# EAGLE library part MCP355* (library Microchip)
Low-Power, Single-Channel 22-Bit Delta-Sigma ADCs Source: http://ww1.microchip.com/downloads/en/DeviceDoc/21950c.pdf
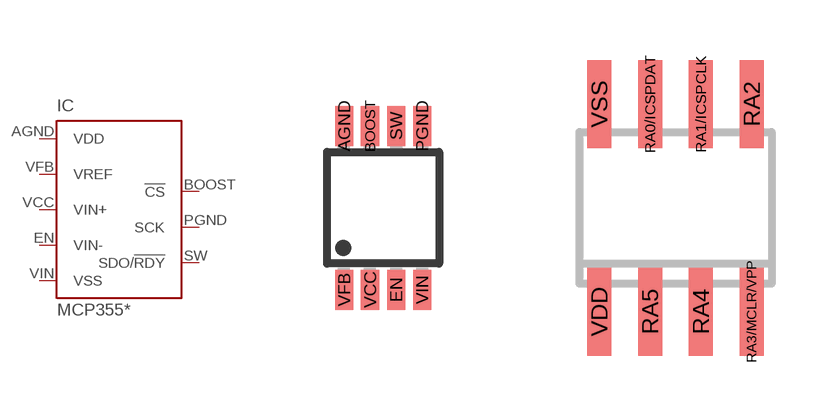
[diagram p93: symbol with the pads of MSOP8; footprints MSOP8, SO-08]

Designator prefix IC

## MCP3550-50MS (MF: MICROCHIP; MPN: MCP3550-50E/MS; OC_FARNELL: 1627198; OC_NEWARK: 69K0130), MCP3550-60MS (MF: MICROCHIP; MPN: MCP3550-60E/MS; OC_FARNELL: 1840933; OC_NEWARK: 69K0134), MCP3551MS (MF: MICROCHIP; MPN: MCP3551-E/MS; OC_FARNELL: 1084624; OC_NEWARK: 22K1368), MCP3553MS (MPN: MCP3553-E/MS; OC_FARNELL: 1439515; OC_NEWARK: 56K7003)  [MSOP8]
AGND  VDD  pwr
BOOST  !CS  in
EN  VIN-  in
PGND  SCK  in
SW  SDO/!RDY  out
VCC  VIN+  in
VFB  VREF  in
VIN  VSS  pwr

## MCP3550-50SN (MF: MICROCHIP; MPN: MCP3550-50-E/SN; OC_FARNELL: 1557411; OC_NEWARK: 69K0131), MCP3550-60SN (MF: MICROCHIP; MPN: MCP3550-60E/SN; OC_FARNELL: 1840934; OC_NEWARK: 69K0135), MCP3551SN (MPN: MCP3551-E/SN; OC_FARNELL: 1084625; OC_NEWARK: 97K4494), MCP3553SN (MF: MICROCHIP; MPN: MCP3553-E/SN; OC_FARNELL: 1605569; OC_NEWARK: 56K7004)  [SO-08]
RA0/ICSPDAT  !CS  in
RA1/ICSPCLK  SDO/!RDY  out
RA2  SCK  in
RA3/MCLR/VPP  VSS  pwr
RA4  VIN-  in
RA5  VIN+  in
VDD  VREF  in
VSS  VDD  pwr

## Footprint MSOP8 (pad centres in mm)
Micro Small Outline Package Grid 0.65mm Source: http://ww1.microchip.com/downloads/en/DeviceDoc/21796H.pdf
smd 0.45 x 1: AGND -0.975,2.05; BOOST -0.325,2.05; EN 0.325,-2.05; PGND 0.975,2.05; SW 0.325,2.05; VCC -0.325,-2.05; VFB -0.975,-2.05; VIN 0.975,-2.05

## Footprint SO-08 (pad centres in mm)
Small Outline Narrow Plastic Gull Wing 150-mil body, package type SN
smd 0.6 x 2.2: RA0/ICSPDAT -0.635,2.6; RA1/ICSPCLK 0.635,2.6; RA2 1.905,2.6; RA3/MCLR/VPP 1.905,-2.6; RA4 0.635,-2.6; RA5 -0.635,-2.6; VDD -1.905,-2.6; VSS -1.905,2.6